# Altium integrated library CPI-148-24-90T-67.IntLib: 1 symbol
Pins are listed as number, name and electrical type; pins without a type are passive.

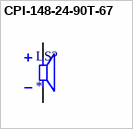
[diagram p0: symbol CPI-148-24-90T-67]

## CPI-148-24-90T-67
designator LS?
13,9 мм, 24 В пост. тока, 90 дБ, сквозное отверстие, пьезоэлектрический звуковой индикатор; MF: Same Sky; MP: CPI-148-24-90T-67
footprint XDCR_CPI-148-24-90T-67
pins: N, P